# Altium footprint library DRP_Basic_2014.PcbLib: 82 footprints (part 5 of 6)
Each footprint in its own frame and in the unit in brackets; x right, y up, seen from the top. Pads: shape width x height; smd on the part's side, far side on the other; paste and mask are expansions set on the pad; w line width, h text height; cw(c..) or ccw(c..) is an arc to the next point about the centre after c.
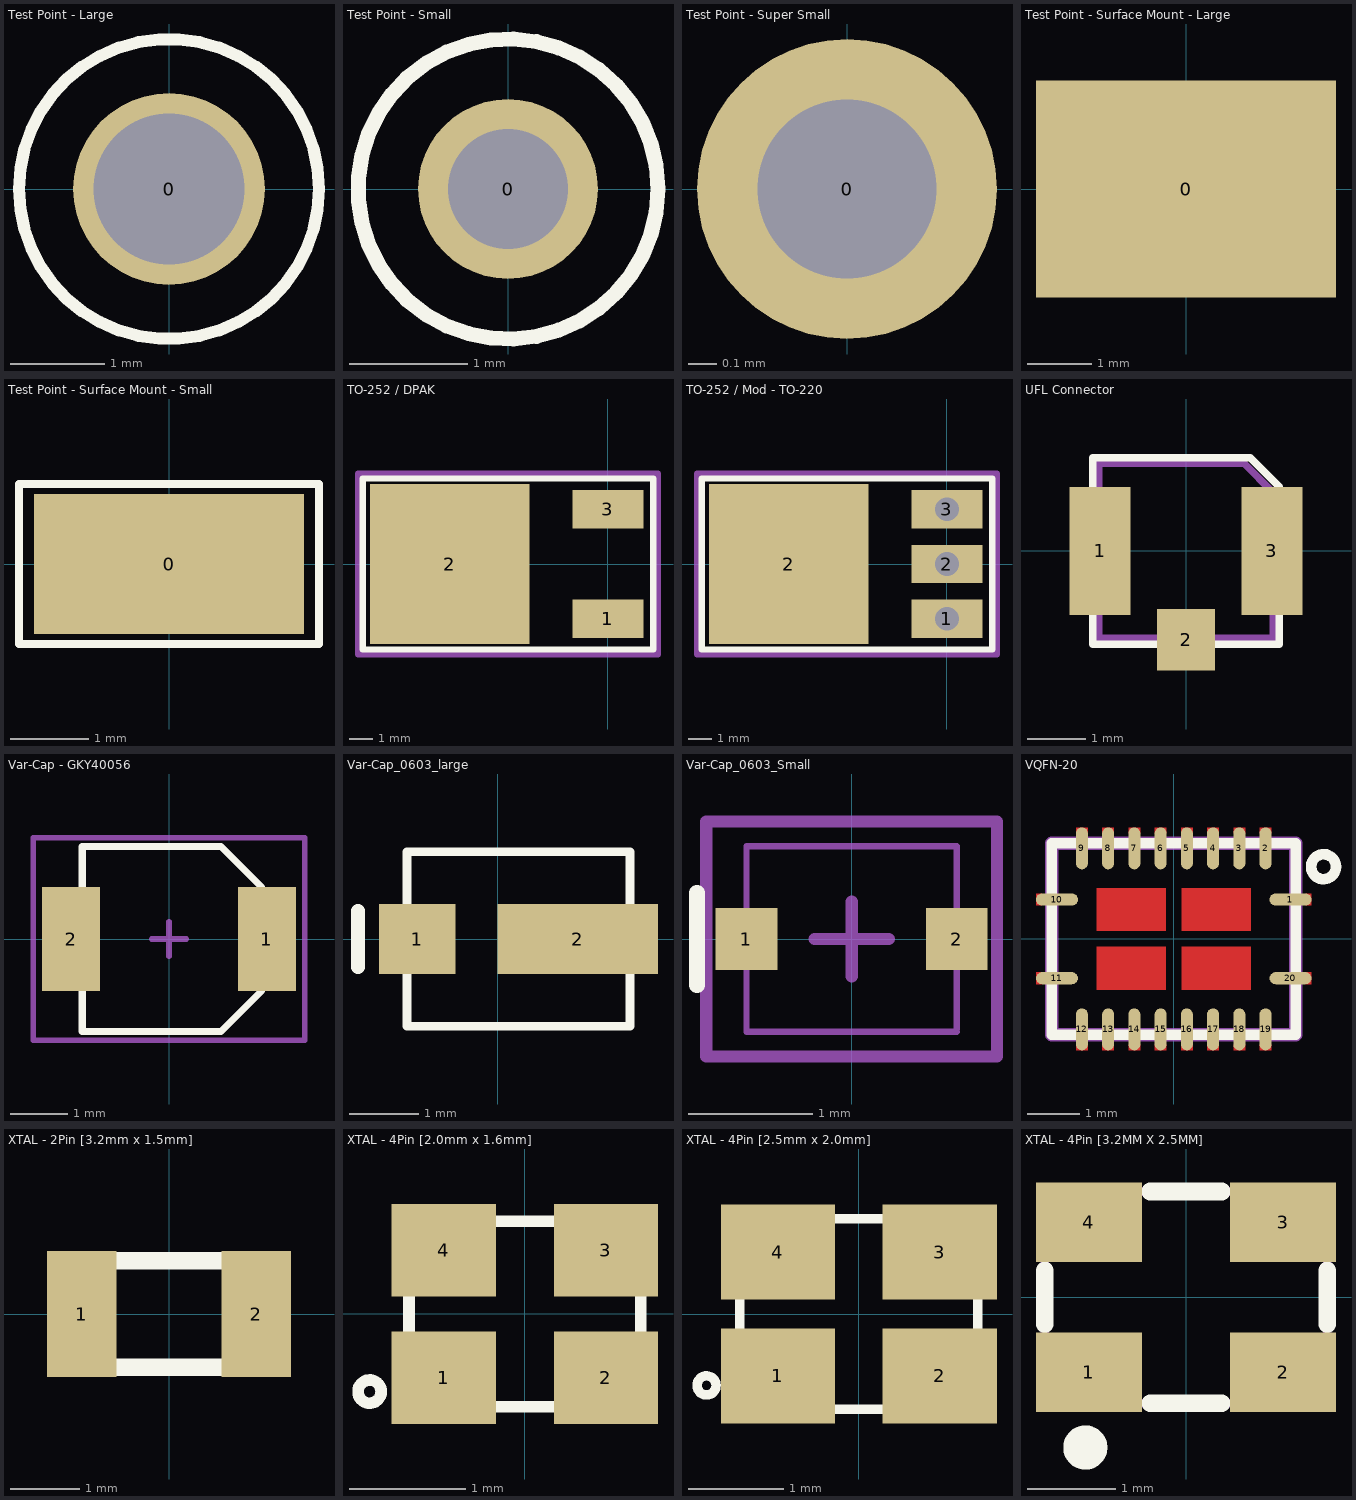
[diagram p4: the footprints below, top view; thin cyan lines are the x and y axes]

## Test Point - Large [mil] "Test Point, 63mil hole, example DK: 5012K-ND"
pads (1):
  round 80 hole 63: 0(0,0)
Top Overlay:
  circle w5: c0,0 r62.5

## Test Point - Small [mil] "Test Point, 40mil hole, example DK: 5000K-ND"
pads (1):
  round 60 hole 40: 0(0,0)
Top Overlay:
  circle w5: c0,0 r50

## Test Point - Super Small [mil] "25 - 42"
pads (1):
  round 42 hole 25: 0(0,0)

## Test Point - Surface Mount - Large [mm] "Test Point, Surface Mount Large , example DK: 5016KCT-ND"
pads (1):
  rect 4.7x3.4 smd: 0(0,0)
Top Overlay:
  circle w0.127: c0,0 r1.27

## Test Point - Surface Mount - Small [mil] "Test Point, Surface Mount Large , example DK: 5015KCT-ND"
pads (1):
  rect 135x70 smd: 0(0,0)
Top Overlay:
  lines w3.94: -75,-40 -75,40 75,40 75,-40 -75,-40

## TO-252 / DPAK [mm] "Three pin device with one pin a thermal PAD, typically for MOSFETS"
height 2.4
pads (3):
  rect 3x1.6 smd: 1(0,-2.3) 3(0,2.3)
  rect 6.7x6.7 smd: 2(-6.65,0)
Top Overlay:
  lines w0.254: -10.3,-3.6 1.9,-3.6 1.9,3.6 -10.3,3.6 -10.3,-3.6
Mechanical 13:
  circle w0.254: c0,-2.3 r0.127
  text ".Designator" at -8.5,-0.5 h1.52
Mechanical 15:
  lines w0.254: -10.5,-3.8 2.1,-3.8 2.1,3.8 -10.5,3.8 -10.5,-3.8
3D body: height 2.4, standoff 0, extent -9.7,-3.2 -3.7,3.2

## TO-252 / Mod - TO-220 [mm] "Three pin device with one pin a thermal PAD, typically for MOSFETS"
height 2.4
pads (4):
  rect 3x1.6 hole 1: 1(0,-2.3) 2(0,0) 3(0,2.3)
  rect 6.7x6.7 smd: 2(-6.65,0)
Top Overlay:
  lines w0.254: -10.3,-3.6 1.9,-3.6 1.9,3.6 -10.3,3.6 -10.3,-3.6
Mechanical 13:
  circle w0.254: c0,-2.3 r0.127
  text ".Designator" at -8.5,-0.5 h1.52
Mechanical 15:
  lines w0.254: -10.5,-3.8 2.1,-3.8 2.1,3.8 -10.5,3.8 -10.5,-3.8
3D body: height 2.4, standoff 0, extent -9.7,-3.2 -3.7,3.2

## UFL Connector [mm] "UFL RF Connector Surface Mount - H9161CT-ND"
height 1.25
pads (3):
  rect 1.05x2.2 smd: 1(-1.475,0) 3(1.475,0)
  rect 1x1.05 smd: 2(0,-1.525)
Top Overlay:
  lines w0.127: -1.6,-1.6 -1.6,1.6 1.1,1.6 1.6,1.1 1.6,-1.6 -1.6,-1.6
Mechanical 13:
  lines w0.127: -1.5,-1.5 -1.5,1.5 1,1.5 1.5,1 1.5,-1.5 -1.5,-1.5
  text ".Designator" at -0.7,-0.3 h0.76
3D body: height 0.35, standoff 0, extent -1.5,-1.5 1.5,1.5
3D body: height 1.35, standoff 0.35, extent -0.992,-0.998 1,0.998

## Var-Cap - GKY40056 [mm] "CAP TRIMMER 8-40PF 50V SMD - GKY40056 - Sprague-Goodman"
height 1.4
pads (2):
  rect 1x1.8 smd: 1(1.695,0) 2(-1.695,0)
Top Overlay:
  lines w0.127: -1.5,-1.6 -1.5,1.6 0.9,1.6 1.6,0.9 1.6,-0.9 0.9,-1.6 -1.5,-1.6
Mechanical 13:
  lines w0.051: -1.5,-1.6 -1.5,1.6 0.85,1.6 0.9,1.6 1.6,0.9 1.6,-0.9 0.9,-1.6 0.85,-1.6 -1.5,-1.6
Mechanical 15:
  lines w0.1: -0.3,0 0.3,0 ; 0,-0.3 0,0.3 ; -2.35,-1.75 -2.35,1.75 2.35,1.75 2.35,-1.75 -2.35,-1.75
3D body: height 1.4, standoff 0, extent -1.5,-1.6 1.6,1.6

## Var-Cap_0603_large [mm] "Var-Cap 603 Compatible, DK: 490-2009 & SG2026CT"
height 1.3
pads (2):
  rect 1.1x1 smd: 1(-1.15,0)
  rect 2.3x1 smd: 2(1.15,0)
Top Overlay:
  lines w0.127: -1.3,-1.25 1.9,-1.25 1.9,1.25 -1.3,1.25 -1.3,-1.25
  lines w0.2: -2,-0.4 -2,0.4

## Var-Cap_0603_Small [mm] "Var-Cap 0603 Compatible High-Q, DK#490-2011-1-ND"
height 0.6
pads (2):
  rect 0.5x0.5 smd: 1(-0.85,0) 2(0.85,0)
Top Overlay:
  lines w0.127: -1.25,-0.375 -1.25,0.375
Mechanical 13:
  lines w0.051: 0.85,-0.75 -0.85,-0.75 -0.85,0.75 0.85,0.75 0.85,-0.725
Mechanical 15:
  lines w0.1: -0.3,0 0.3,0 ; 0,-0.3 0,0.3 ; -1.175,-0.95 -1.175,0.95 1.175,0.95 1.175,-0.95 -1.175,-0.95
3D body: height 0.8, standoff 0, extent -0.85,-0.75 0.85,0.75

## VQFN-20 [mm]
pads (20):
  oval 0.8x0.23 smd: 1(2.225,0.75) 10(-2.225,0.75) 11(-2.225,-0.75) 20(2.225,-0.75)
  oval 0.23x0.8 smd: 2(1.75,1.725) 3(1.25,1.725) 4(0.75,1.725) 5(0.25,1.725) 6(-0.25,1.725) 7(-0.75,1.725) 8(-1.25,1.725) 9(-1.75,1.725) 12(-1.75,-1.725) 13(-1.25,-1.725) 14(-0.75,-1.725) 15(-0.25,-1.725) 16(0.25,-1.725) 17(0.75,-1.725) 18(1.25,-1.725) 19(1.75,-1.725)
Top Layer:
  rectangle: 2.51,-0.865 2.625,-0.635
  rectangle: 2.51,0.635 2.625,0.865
  rectangle: -2.625,0.635 -2.51,0.865
  rectangle: -2.625,-0.865 -2.51,-0.635
  rectangle: -1.865,-2.125 -1.635,-2.01
  rectangle: -1.365,-2.125 -1.135,-2.01
  rectangle: -0.865,-2.125 -0.635,-2.01
  rectangle: -0.365,-2.125 -0.135,-2.01
  rectangle: 0.135,-2.125 0.365,-2.01
  rectangle: 0.635,-2.13 0.865,-2.015
  rectangle: 1.135,-2.125 1.365,-2.01
  rectangle: 1.635,-2.125 1.865,-2.01
  rectangle: 1.635,2.01 1.865,2.125
  rectangle: 1.135,2.01 1.365,2.125
  rectangle: 0.635,2.01 0.865,2.125
  rectangle: 0.135,2.01 0.365,2.125
  rectangle: -0.365,2.01 -0.135,2.125
  rectangle: -0.865,2.01 -0.635,2.125
  rectangle: -1.365,2.01 -1.135,2.125
  rectangle: -1.865,2.01 -1.635,2.125
  rectangle: 0.15,0.15 1.47,0.97
  rectangle: 0.15,-0.97 1.47,-0.15
  rectangle: -1.47,-0.97 -0.15,-0.15
  rectangle: -1.47,0.15 -0.15,0.97
Top Overlay:
  circle w0.203: c2.855,1.375 r0.238
  lines w0.2: -2.325,-1.825 -2.325,1.825 2.325,1.825 2.325,-1.825 -2.325,-1.825
Mechanical 13:
  lines w0.254: -2.325,-1.825 -2.325,1.825 2.325,1.825 2.325,-1.825 -2.325,-1.825
3D body: height 1, standoff 0, extent -2.325,-1.825 2.325,1.825

## XTAL - 2Pin [3.2mm x 1.5mm] [mm] "FC-135   crystal - epson eletronics"
height 0.8
pads (2):
  rect 1x1.8 smd: 1(-1.25,0) 2(1.25,0)
Top Overlay:
  lines w0.254: -0.762,-0.762 0.762,-0.762 ; -0.762,0.762 0.762,0.762
Mechanical 13:
  lines w0.1: -1.6,-0.75 -1.6,0.75 1.6,0.75 1.6,-0.75 -1.6,-0.75
  text ".Designator" at -1.35,-0.2 h0.51
3D body: height 0.8, standoff 0, extent -1.6,-0.75 1.6,0.75

## XTAL - 4Pin [2.0mm x 1.6mm] [mm] "CRYSTAL, 2.5mm x 2.0mm,  4Pin"
height 0.45
pads (4):
  rect 0.9x0.8 smd: 1(-0.7,-0.55) 2(0.7,-0.55) 3(0.7,0.55) 4(-0.7,0.55)
Top Overlay:
  circle w0.1: c-1.34,-0.67 r0.1
  lines w0.1: -1,-0.8 1,-0.8 1,0.8 -1,0.8 -1,-0.8

## XTAL - 4Pin [2.5mm x 2.0mm] [mm] "CRYSTAL, 2.5mm x 2.0mm,  4Pin"
height 0.85
pads (4):
  rect 1.2x1 smd: 1(-0.85,-0.65) 2(0.85,-0.65) 3(0.85,0.65) 4(-0.85,0.65)
Top Overlay:
  circle w0.1: c-1.6,-0.75 r0.1
  lines w0.1: -1.25,-1 -1.25,1 1.25,1 1.25,-1 -1.25,-1

## XTAL - 4Pin [3.2MM X 2.5MM] [mm] "CRYSTAL, 3.2mm x 2.5mm,  4Pin"
height 1
pads (4):
  rect 1.2x0.9 smd: 1(-1.1,-0.85) 2(1.1,-0.85) 3(1.1,0.85) 4(-1.1,0.85)
Top Overlay:
  circle w0.25: c-1.141,-1.702 r0.125
  lines w0.2: -1.6,-0.305 -1.6,0.305 ; -0.406,-1.2 0.406,-1.2 ; -0.406,1.2 0.406,1.2 ; 1.6,-0.305 1.6,0.305
Mechanical 13:
  circle w0.1: c-1.1,-0.85 r0.057
  lines w0.1: -1.6,-1.2 1.6,-1.2 1.6,1.2 -1.6,1.2 -1.6,-1.2
  text ".Designator" at -1.4,-0.3 h0.76
3D body: height 1, standoff 0, extent -1.6,-1.2 1.6,1.2